# Altium schematic symbol library HW_ADHERENT_NFC_R1_L3.SchLib: 1628 symbols (part 5 of 31)
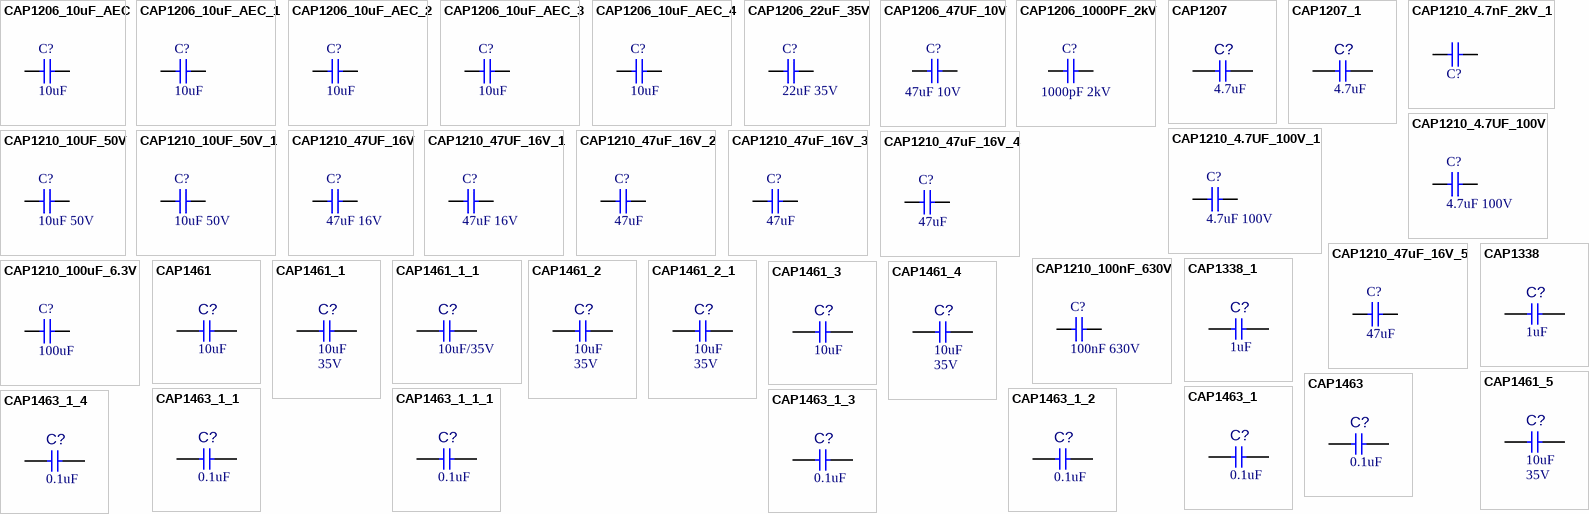
[diagram p54: symbols CAP1206_10uF_AEC to CAP1463_1_4]

## CAP1210_4.7UF_100V
designator C?, comment value 4.7uF 100V  (hidden comment: CAP CER 4.7UF 100V X7S 1210)
4.7 µF ±10% 100V Ceramic Capacitor X7S 1210 (3225 Metric); Manufacturer Part Number: CL32Y475KCIVPNE; Order Code: Digi: 1276-CL32Y475KCIVPNETR-ND; LCSC Manufacturer Part Number: CL32Y475KCIVPNE; LCSC Part Number: C2803397
footprint CAP1210 (CAPACITOR 1210)
pins: 1, 2

## CAP1210_4.7UF_100V_1
designator C?, comment value 4.7uF 100V  (hidden comment: CAP CER 4.7UF 100V X7S 1210)
4.7 µF ±10% 100V Ceramic Capacitor X7S 1210 (3225 Metric); Manufacturer Part Number: CL32Y475KCIVPNE; Order Code: Digi: 1276-CL32Y475KCIVPNETR-ND; LCSC Manufacturer Part Number: CL32Y475KCIVPNE; LCSC Part Number: C2803397
footprint CAP1210 (CAPACITOR 1210)
pins: 1, 2

## CAP1210_10UF_50V
designator C?, comment value 10uF 50V  (hidden comment: CAP CER 10UF 50V X7R 1210)
50V 10uF X7R 1210 Multilayer Ceramic Capacitors MLCC - SMD/SMT ROHS; Manufacturer Part Number: CS3225X7R106K500NRL; Order Code: LCSC: C2918502; LCSC Manufacturer Part Number: CS3225X7R106K500NRL; LCSC Part Number: C2918502
footprint CAP1210 (CAPACITOR 1210)
pins: 1, 2

## CAP1210_10UF_50V_1
designator C?, comment value 10uF 50V  (hidden comment: CAP CER 10UF 50V X7R 1210)
50V 10uF X7R 1210 Multilayer Ceramic Capacitors MLCC - SMD/SMT ROHS; Manufacturer Part Number: CS3225X7R106K500NRL; Order Code: LCSC: C2918502; LCSC Manufacturer Part Number: CS3225X7R106K500NRL; LCSC Part Number: C2918502
footprint CAP1210 (CAPACITOR 1210)
pins: 1, 2

## CAP1210_47UF_16V
designator C?, comment value 47uF 16V  (hidden comment: CAP CER 47UF 16V X5R 1210)
16V 47uF X5R ±10% 1210 Multilayer Ceramic Capacitors MLCC - SMD/SMT ROHS; Manufacturer Part Number: CS3225X5R476K160NRL; Order Code: LCSC: C2918513; LCSC Manufacturer Part Number: CS3225X5R476K160NRL; LCSC Part Number: C2918513
footprint CAP1210 (CAPACITOR 1210)
pins: 1, 2

## CAP1210_47UF_16V_1
designator C?, comment value 47uF 16V  (hidden comment: CAP CER 47UF 16V X5R 1210)
16V 47uF X5R ±10% 1210 Multilayer Ceramic Capacitors MLCC - SMD/SMT ROHS; Manufacturer Part Number: CS3225X5R476K160NRL; Order Code: LCSC: C2918513; LCSC Manufacturer Part Number: CS3225X5R476K160NRL; LCSC Part Number: C2918513
footprint CAP1210 (CAPACITOR 1210)
pins: 1, 2

## CAP1210_47uF_16V_2
designator C?, comment 47uF
CAP CER 47UF 16V X6S 1210; P/N: GRT32EC81C476ME13L; Order Code: DIGI : 490-12495-1-ND; Value: 47uF 16V
footprint CAP1210 (CAPACITOR 1210)
pins: 1, 2

## CAP1210_47uF_16V_3
designator C?, comment 47uF
CAP CER 47UF 16V X6S 1210; P/N: GRT32EC81C476ME13L; Order Code: DIGI : 490-12495-1-ND; Value: 47uF 16V
footprint CAP1210 (CAPACITOR 1210)
pins: 1, 2

## CAP1210_47uF_16V_4
designator C?, comment 47uF
CAP CER 47UF 16V X6S 1210; P/N: GRT32EC81C476ME13L; Order Code: DIGI : 490-12495-1-ND; Value: 47uF 16V
footprint CAP1210 (CAPACITOR 1210)
pins: 1, 2

## CAP1210_47uF_16V_5
designator C?, comment 47uF
CAP CER 47UF 16V X6S 1210; P/N: GRT32EC81C476ME13L; Order Code: DIGI : 490-12495-1-ND; Value: 47uF 16V
footprint CAP1210 (CAPACITOR 1210)
pins: 1, 2

## CAP1210_100nF_630V
designator C?, comment 100nF 630V
0.1 µF ±10% 630V Ceramic Capacitor X7T 1210 (3225 Metric); Manufacturer Part Number: CGA6N3X7R2A225K230AB; Manufacturer: KEMET; Value: 2.2uF 100V
footprint CAP1210
pins: 1, 2

## CAP1210_100uF_6.3V
designator C?, comment 100uF
100 µF ±20% 6.3V Ceramic Capacitor X6S 1210 (3225 Metric); Manufacturer: KEMET; Manufacturer Part Number: GRM32EC80J107ME20L; Value: 100uF 6.3V
footprint CAP1210
pins: 1, 2

## CAP1338
designator C?, comment 1uF
CAP CER 1UF 35V X5R 0402; Manufacturer: Murata Electronics North America; Manufacturer Part Number: GRM155R6YA105KE11D; Value: 1uF; Voltage: 35V; Revision: A; Supplier Part Number: 490-10019-1-ND
footprint 0402_C (MODIFIED BY DN_MH - 16JAN17; CHECKED BY DN_TN - 18JAN17)
pins: 1, 2

## CAP1338_1
designator C?, comment 1uF
CAP CER 1UF 35V X5R 0402; Manufacturer: Murata Electronics North America; Manufacturer Part Number: GRM155R6YA105KE11D; Value: 1uF; Voltage: 35V; Revision: A; Supplier Part Number: 490-10019-1-ND
footprint 0402_C (MODIFIED BY DN_MH - 16JAN17; CHECKED BY DN_TN - 18JAN17)
pins: 1, 2

## CAP1461
designator C?, comment 10uF
CAP CER 10UF 25V X5R 0603; Manufacturer: Murata Electronics North America; Manufacturer Part Number: GRM188R61E106MA73D; Value: 10uF; Voltage: 25V; Revision: 1; Supplier Part Number: 490-7202-1-ND
footprint 0603_C (CHECKED BY DN_TN - 19FEB19)
pins: 1, 2

## CAP1461_1
designator C?, comment Voltage: 35V  (hidden comment: 10uF)
CAP CER 10UF 35V X5R 0603; Manufacturer: Murata Electronics North America; Manufacturer Part Number: GRM188R6YA106MA73D; Value: 10uF; Revision: 1; Supplier Part Number: 490-13248-1-ND
footprint 0603_C (CHECKED BY DN_TN - 19FEB19)
pins: 1, 2

## CAP1461_1_1
designator C?, comment value 10uF/35V  (hidden comment: 10uF)
CAP CER 10UF 35V X5R 0603; Manufacturer: Murata Electronics North America; Manufacturer Part Number: GRM188R6YA106MA73D; Voltage: 35V; Revision: 1; Supplier Part Number: 490-13248-1-ND
footprint 0603_C (CHECKED BY DN_TN - 19FEB19)
pins: 1, 2

## CAP1461_2
designator C?, comment Voltage: 35V  (hidden comment: 10uF)
CAP CER 10UF 35V X5R 0603; Manufacturer: Murata Electronics North America; Manufacturer Part Number: GRM188R6YA106MA73D; Value: 10uF; Revision: 1; Supplier Part Number: 490-13248-1-ND
footprint 0603_C (CHECKED BY DN_TN - 19FEB19)
pins: 1, 2

## CAP1461_2_1
designator C?, comment Voltage: 35V  (hidden comment: 10uF)
CAP CER 10UF 35V X5R 0603; Manufacturer: Murata Electronics North America; Manufacturer Part Number: GRM188R6YA106MA73D; Value: 10uF; Revision: 1; Supplier Part Number: 490-13248-1-ND
footprint 0603_C (CHECKED BY DN_TN - 19FEB19)
pins: 1, 2

## CAP1461_3
designator C?, comment 10uF
CAP CER 10UF 25V X5R 0603; Manufacturer: Murata Electronics North America; Manufacturer Part Number: GRM188R61E106MA73D; Value: 10uF; Voltage: 25V; Revision: 1; Supplier Part Number: 490-7202-1-ND
footprint 0603_C (CHECKED BY DN_TN - 19FEB19)
pins: 1, 2

## CAP1461_4
designator C?, comment Voltage: 35V  (hidden comment: 10uF)
CAP CER 10UF 35V X5R 0603; Manufacturer: Murata Electronics North America; Manufacturer Part Number: GRM188R6YA106MA73D; Value: 10uF; Revision: 1; Supplier Part Number: 490-13248-1-ND
footprint 0603_C (CHECKED BY DN_TN - 19FEB19)
pins: 1, 2

## CAP1461_5
designator C?, comment Voltage: 35V  (hidden comment: 10uF)
CAP CER 10UF 35V X5R 0603; Manufacturer: Murata Electronics North America; Manufacturer Part Number: GRM188R6YA106MA73D; Value: 10uF; Revision: 1; Supplier Part Number: 490-13248-1-ND
footprint 0603_C (CHECKED BY DN_TN - 19FEB19)
pins: 1, 2

## CAP1463
designator C?, comment 0.1uF
CAP CER 0.1UF 50V X7R 0402; Manufacturer: TDK Corporation; Manufacturer Part Number: C1005X7R1H104K050BB; Value: 0.1uF; Voltage: 50V; Revision: 1; Supplier Part Number: 445-5932-1-ND
footprint 0402_C (MODIFIED BY DN_MH - 16JAN17; CHECKED BY DN_TN - 18JAN17)
pins: 1, 2

## CAP1463_1
designator C?, comment 0.1uF
CAP CER 0.1UF 50V X7R 0402; Manufacturer: TDK Corporation; Manufacturer Part Number: C1005X7R1H104K050BB; Value: 0.1uF; Voltage: 50V; Revision: A; Supplier Part Number: 445-5932-1-ND
footprint 0402_C (MODIFIED BY DN_MH - 16JAN17; CHECKED BY DN_TN - 18JAN17)
pins: 1, 2

## CAP1463_1_1
designator C?, comment 0.1uF
CAP CER 0.1UF 50V X7R 0402; Manufacturer: TDK Corporation; Manufacturer Part Number: C1005X7R1H104K050BB; Value: 0.1uF; Voltage: 50V; Revision: A; Supplier Part Number: 445-5932-1-ND
footprint 0402_C (MODIFIED BY DN_MH - 16JAN17; CHECKED BY DN_TN - 18JAN17)
pins: 1, 2

## CAP1463_1_1_1
designator C?, comment 0.1uF
CAP CER 0.1UF 50V X7R 0402; Manufacturer: TDK Corporation; Manufacturer Part Number: C1005X7R1H104K050BB; Value: 0.1uF; Voltage: 50V; Revision: A; Supplier Part Number: 445-5932-1-ND
footprint 0402_C (MODIFIED BY DN_MH - 16JAN17; CHECKED BY DN_TN - 18JAN17)
pins: 1, 2

## CAP1463_1_2
designator C?, comment 0.1uF
CAP CER 0.1UF 50V X7R 0402; Manufacturer: TDK Corporation; Manufacturer Part Number: C1005X7R1H104K050BB; Value: 0.1uF; Voltage: 50V; Revision: A; Supplier Part Number: 445-5932-1-ND
footprint 0402_C (MODIFIED BY DN_MH - 16JAN17; CHECKED BY DN_TN - 18JAN17)
pins: 1, 2

## CAP1463_1_3
designator C?, comment 0.1uF
CAP CER 0.1UF 50V X7R 0402; Manufacturer: TDK Corporation; Manufacturer Part Number: C1005X7R1H104K050BB; Voltage: 50V; Revision: A; Supplier Part Number: 445-5932-1-ND; Value: 0.1uF
footprint 0402_C (MODIFIED BY DN_MH - 16JAN17; CHECKED BY DN_TN - 18JAN17)
pins: 1, 2

## CAP1463_1_4
designator C?, comment 0.1uF
CAP CER 0.1UF 50V X7R 0402; Manufacturer: TDK Corporation; Manufacturer Part Number: C1005X7R1H104K050BB; Value: 0.1uF; Voltage: 50V; Revision: A; Supplier Part Number: 445-5932-1-ND
footprint 0402_C (MODIFIED BY DN_MH - 16JAN17; CHECKED BY DN_TN - 18JAN17)
pins: 1, 2

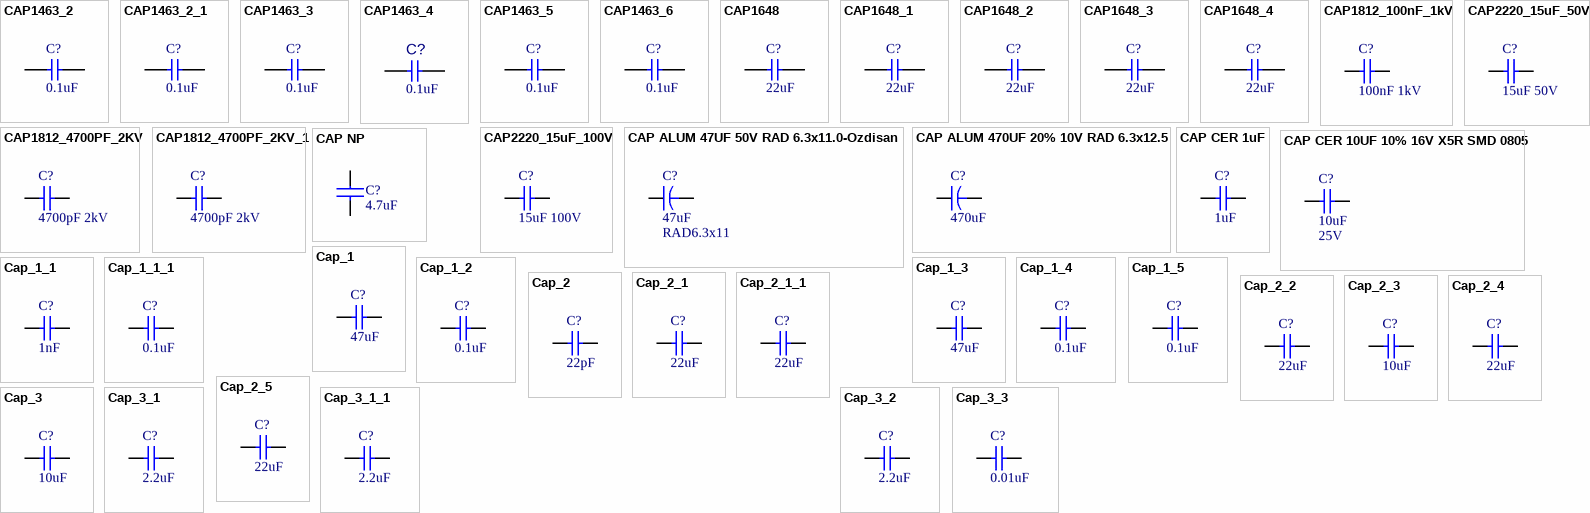
[diagram p10: symbols CAP1463_2 to Cap_3_3]

## CAP1463_2
designator C?, comment 0.1uF
CAPACITOR CERAMIC, 0.1UF, 50V, X7R, 10%, 0603; Manufacturer: Yageo; Manufacturer Part Number: CC0603KRX7R9BB104; Capacitance: 100nF; ComponentLink1URL: https://chn-vm-apps.microchip.com/mchprepo/parts/Datasheets/TDKMLCCCapRange.pdf; ComponentLink1Description: Datasheets; Supplier 1: Digi-Key; Supplier Part Number 1: 311-1344-1-ND; RoHS: Yes; Category: Ceramic Capacitors; Stock 1: 13652525; Pricing 1: 1=0,10000, 10=0,06200, 50=0,03380, 100=0,02760, 500=0,01972, 1000=0,01550 (USD); Mount: Surface Mount; Case/Package: 0603; Number of Pins: 2; Case Code (Metric): 1608; Case Code (Imperial): 0603; Dielectric Material: Ceramic; Min Operating Temperature: -55°C; Max Operating Temperature: 125°C; Package Quantity: 1; Voltage Rating: 50V; Tolerance: 10%; Packaging: Tape and Reel; Dielectric: X7R; Termination: SMD/SMT; Voltage: 50V; Series: CC; Length: 1.6mm; Width: 0.031inch; Height: 0.8mm; Thickness: 0.035inch; Depth: 0.8mm; Radiation Hardening: No; REACH SVHC: No SVHC; Lead Free: Lead Free; Halogen Free: Halogen Free; RoHS Compliant: Yes; ComponentLink2URL: https://datasheet.ciiva.com/11786/0900766b80d84f1d-11786061.pdf?src-supplier=RSComponents; ComponentLink2Description: https://datasheet.ciiva.com/11786/0900766b80d84f1d-11786061.pdf?src-supplier=RSComponents; ComponentLink3URL: https://datasheet.ciiva.com/144/mlccorderingcode-144176.pdf?src-supplier=Digi-Key; ComponentLink3Description: https://datasheet.ciiva.com/144/mlccorderingcode-144176.pdf?src-supplier=Digi-Key; ComponentLink4URL: https://datasheet.ciiva.com/144/mlccorderingcode-144177.pdf?src-supplier=Digi-Key; ComponentLink4Description: https://datasheet.ciiva.com/144/mlccorderingcode-144177.pdf?src-supplier=Digi-Key; ComponentLink5URL: https://datasheet.ciiva.com/144/mlccorderingcode-144178.pdf?src-supplier=Digi-Key; ComponentLink5Description: https://datasheet.ciiva.com/144/mlccorderingcode-144178.pdf?src-supplier=Digi-Key; ComponentLink6URL: https://datasheet.ciiva.com/7978/1489800-7978166.pdf?src-supplier=Element14; ComponentLink6Description: https://datasheet.ciiva.com/7978/1489800-7978166.pdf?src-supplier=Element14; ComponentLink7URL: https://datasheet.ciiva.com/16625/upy-gphc-x7r-6-3v-to-50v-8-16625530.pdf?src-supplier=Avnet+Europe; ComponentLink7Description: https://datasheet.ciiva.com/16625/upy-gphc-x7r-6-3v-to-50v-8-16625530.pdf?src-supplier=Avnet+Europe; ComponentLink8URL: https://datasheet.ciiva.com/8033/70765-8033819.pdf?src-supplier=Element14; ComponentLink8Description: https://datasheet.ciiva.com/8033/70765-8033819.pdf?src-supplier=Element14; ComponentLink9URL: https://datasheet.ciiva.com/8033/70765-8033821.pdf?src-supplier=Element14; ComponentLink9Description: https://datasheet.ciiva.com/8033/70765-8033821.pdf?src-supplier=Element14; ComponentLink10URL: https://datasheet.ciiva.com/22749/1489800-22749214.pdf?src-supplier=Element14; ComponentLink10Description: https://datasheet.ciiva.com/22749/1489800-22749214.pdf?src-supplier=Element14; ComponentLink11URL: https://datasheet.ciiva.com/31394/1489800-31394927.pdf?src-supplier=Farnell; ComponentLink11Description: https://datasheet.ciiva.com/31394/1489800-31394927.pdf?src-supplier=Farnell
footprint C 0603(1608)x0.8_3
pins: 1, 2

## CAP1463_2_1
designator C?, comment 0.1uF
CAPACITOR CERAMIC, 0.1UF, 50V, X7R, 10%, 0603; Manufacturer: Yageo; Manufacturer Part Number: CC0603KRX7R9BB104; Capacitance: 100nF; ComponentLink1URL: https://chn-vm-apps.microchip.com/mchprepo/parts/Datasheets/TDKMLCCCapRange.pdf; ComponentLink1Description: Datasheets; Supplier 1: Digi-Key; Supplier Part Number 1: 311-1344-1-ND; RoHS: Yes; Category: Ceramic Capacitors; Stock 1: 13652525; Pricing 1: 1=0,10000, 10=0,06200, 50=0,03380, 100=0,02760, 500=0,01972, 1000=0,01550 (USD); Mount: Surface Mount; Case/Package: 0603; Number of Pins: 2; Case Code (Metric): 1608; Case Code (Imperial): 0603; Dielectric Material: Ceramic; Min Operating Temperature: -55°C; Max Operating Temperature: 125°C; Package Quantity: 1; Voltage Rating: 50V; Tolerance: 10%; Packaging: Tape and Reel; Dielectric: X7R; Termination: SMD/SMT; Voltage: 50V; Series: CC; Length: 1.6mm; Width: 0.031inch; Height: 0.8mm; Thickness: 0.035inch; Depth: 0.8mm; Radiation Hardening: No; REACH SVHC: No SVHC; Lead Free: Lead Free; Halogen Free: Halogen Free; RoHS Compliant: Yes; ComponentLink2URL: https://datasheet.ciiva.com/11786/0900766b80d84f1d-11786061.pdf?src-supplier=RSComponents; ComponentLink2Description: https://datasheet.ciiva.com/11786/0900766b80d84f1d-11786061.pdf?src-supplier=RSComponents; ComponentLink3URL: https://datasheet.ciiva.com/144/mlccorderingcode-144176.pdf?src-supplier=Digi-Key; ComponentLink3Description: https://datasheet.ciiva.com/144/mlccorderingcode-144176.pdf?src-supplier=Digi-Key; ComponentLink4URL: https://datasheet.ciiva.com/144/mlccorderingcode-144177.pdf?src-supplier=Digi-Key; ComponentLink4Description: https://datasheet.ciiva.com/144/mlccorderingcode-144177.pdf?src-supplier=Digi-Key; ComponentLink5URL: https://datasheet.ciiva.com/144/mlccorderingcode-144178.pdf?src-supplier=Digi-Key; ComponentLink5Description: https://datasheet.ciiva.com/144/mlccorderingcode-144178.pdf?src-supplier=Digi-Key; ComponentLink6URL: https://datasheet.ciiva.com/7978/1489800-7978166.pdf?src-supplier=Element14; ComponentLink6Description: https://datasheet.ciiva.com/7978/1489800-7978166.pdf?src-supplier=Element14; ComponentLink7URL: https://datasheet.ciiva.com/16625/upy-gphc-x7r-6-3v-to-50v-8-16625530.pdf?src-supplier=Avnet+Europe; ComponentLink7Description: https://datasheet.ciiva.com/16625/upy-gphc-x7r-6-3v-to-50v-8-16625530.pdf?src-supplier=Avnet+Europe; ComponentLink8URL: https://datasheet.ciiva.com/8033/70765-8033819.pdf?src-supplier=Element14; ComponentLink8Description: https://datasheet.ciiva.com/8033/70765-8033819.pdf?src-supplier=Element14; ComponentLink9URL: https://datasheet.ciiva.com/8033/70765-8033821.pdf?src-supplier=Element14; ComponentLink9Description: https://datasheet.ciiva.com/8033/70765-8033821.pdf?src-supplier=Element14; ComponentLink10URL: https://datasheet.ciiva.com/22749/1489800-22749214.pdf?src-supplier=Element14; ComponentLink10Description: https://datasheet.ciiva.com/22749/1489800-22749214.pdf?src-supplier=Element14; ComponentLink11URL: https://datasheet.ciiva.com/31394/1489800-31394927.pdf?src-supplier=Farnell; ComponentLink11Description: https://datasheet.ciiva.com/31394/1489800-31394927.pdf?src-supplier=Farnell
footprint C 0603(1608)x0.8_3
pins: 1, 2

## CAP1463_3
designator C?, comment 0.1uF
CAPACITOR CERAMIC, 0.1UF, 50V, X7R, 10%, 0603; Manufacturer: Yageo; Manufacturer Part Number: CC0603KRX7R9BB104; Capacitance: 100nF; ComponentLink1URL: https://chn-vm-apps.microchip.com/mchprepo/parts/Datasheets/TDKMLCCCapRange.pdf; ComponentLink1Description: Datasheets; Supplier 1: Digi-Key; Supplier Part Number 1: 311-1344-1-ND; RoHS: Yes; Category: Ceramic Capacitors; Stock 1: 13652525; Pricing 1: 1=0,10000, 10=0,06200, 50=0,03380, 100=0,02760, 500=0,01972, 1000=0,01550 (USD); Mount: Surface Mount; Case/Package: 0603; Number of Pins: 2; Case Code (Metric): 1608; Case Code (Imperial): 0603; Dielectric Material: Ceramic; Min Operating Temperature: -55°C; Max Operating Temperature: 125°C; Package Quantity: 1; Voltage Rating: 50V; Tolerance: 10%; Packaging: Tape and Reel; Dielectric: X7R; Termination: SMD/SMT; Voltage: 50V; Series: CC; Length: 1.6mm; Width: 0.031inch; Height: 0.8mm; Thickness: 0.035inch; Depth: 0.8mm; Radiation Hardening: No; REACH SVHC: No SVHC; Lead Free: Lead Free; Halogen Free: Halogen Free; RoHS Compliant: Yes; ComponentLink2URL: https://datasheet.ciiva.com/11786/0900766b80d84f1d-11786061.pdf?src-supplier=RSComponents; ComponentLink2Description: https://datasheet.ciiva.com/11786/0900766b80d84f1d-11786061.pdf?src-supplier=RSComponents; ComponentLink3URL: https://datasheet.ciiva.com/144/mlccorderingcode-144176.pdf?src-supplier=Digi-Key; ComponentLink3Description: https://datasheet.ciiva.com/144/mlccorderingcode-144176.pdf?src-supplier=Digi-Key; ComponentLink4URL: https://datasheet.ciiva.com/144/mlccorderingcode-144177.pdf?src-supplier=Digi-Key; ComponentLink4Description: https://datasheet.ciiva.com/144/mlccorderingcode-144177.pdf?src-supplier=Digi-Key; ComponentLink5URL: https://datasheet.ciiva.com/144/mlccorderingcode-144178.pdf?src-supplier=Digi-Key; ComponentLink5Description: https://datasheet.ciiva.com/144/mlccorderingcode-144178.pdf?src-supplier=Digi-Key; ComponentLink6URL: https://datasheet.ciiva.com/7978/1489800-7978166.pdf?src-supplier=Element14; ComponentLink6Description: https://datasheet.ciiva.com/7978/1489800-7978166.pdf?src-supplier=Element14; ComponentLink7URL: https://datasheet.ciiva.com/16625/upy-gphc-x7r-6-3v-to-50v-8-16625530.pdf?src-supplier=Avnet+Europe; ComponentLink7Description: https://datasheet.ciiva.com/16625/upy-gphc-x7r-6-3v-to-50v-8-16625530.pdf?src-supplier=Avnet+Europe; ComponentLink8URL: https://datasheet.ciiva.com/8033/70765-8033819.pdf?src-supplier=Element14; ComponentLink8Description: https://datasheet.ciiva.com/8033/70765-8033819.pdf?src-supplier=Element14; ComponentLink9URL: https://datasheet.ciiva.com/8033/70765-8033821.pdf?src-supplier=Element14; ComponentLink9Description: https://datasheet.ciiva.com/8033/70765-8033821.pdf?src-supplier=Element14; ComponentLink10URL: https://datasheet.ciiva.com/22749/1489800-22749214.pdf?src-supplier=Element14; ComponentLink10Description: https://datasheet.ciiva.com/22749/1489800-22749214.pdf?src-supplier=Element14; ComponentLink11URL: https://datasheet.ciiva.com/31394/1489800-31394927.pdf?src-supplier=Farnell; ComponentLink11Description: https://datasheet.ciiva.com/31394/1489800-31394927.pdf?src-supplier=Farnell
footprint C 0603(1608)x0.8_3
pins: 1, 2

## CAP1463_4
designator C?, comment 0.1uF
CAP CER 0.1UF 50V X7R 0402; Manufacturer: TDK Corporation; Manufacturer Part Number: C1005X7R1H104K050BB; Value: 0.1uF; Voltage: 50V; Revision: 1; Supplier Part Number: 445-5932-1-ND
footprint 0402_C (MODIFIED BY DN_MH - 16JAN17; CHECKED BY DN_TN - 18JAN17)
pins: 1, 2

## CAP1463_5
designator C?, comment 0.1uF
CAPACITOR CERAMIC, 0.1UF, 50V, X7R, 10%, 0603; Manufacturer: Yageo; Manufacturer Part Number: CC0603KRX7R9BB104; Capacitance: 100nF; ComponentLink1URL: https://chn-vm-apps.microchip.com/mchprepo/parts/Datasheets/TDKMLCCCapRange.pdf; ComponentLink1Description: Datasheets; Supplier 1: Digi-Key; Supplier Part Number 1: 311-1344-1-ND; RoHS: Yes; Category: Ceramic Capacitors; Stock 1: 13652525; Pricing 1: 1=0,10000, 10=0,06200, 50=0,03380, 100=0,02760, 500=0,01972, 1000=0,01550 (USD); Mount: Surface Mount; Case/Package: 0603; Number of Pins: 2; Case Code (Metric): 1608; Case Code (Imperial): 0603; Dielectric Material: Ceramic; Min Operating Temperature: -55°C; Max Operating Temperature: 125°C; Package Quantity: 1; Voltage Rating: 50V; Tolerance: 10%; Packaging: Tape and Reel; Dielectric: X7R; Termination: SMD/SMT; Voltage: 50V; Series: CC; Length: 1.6mm; Width: 0.031inch; Height: 0.8mm; Thickness: 0.035inch; Depth: 0.8mm; Radiation Hardening: No; REACH SVHC: No SVHC; Lead Free: Lead Free; Halogen Free: Halogen Free; RoHS Compliant: Yes; ComponentLink2URL: https://datasheet.ciiva.com/11786/0900766b80d84f1d-11786061.pdf?src-supplier=RSComponents; ComponentLink2Description: https://datasheet.ciiva.com/11786/0900766b80d84f1d-11786061.pdf?src-supplier=RSComponents; ComponentLink3URL: https://datasheet.ciiva.com/144/mlccorderingcode-144176.pdf?src-supplier=Digi-Key; ComponentLink3Description: https://datasheet.ciiva.com/144/mlccorderingcode-144176.pdf?src-supplier=Digi-Key; ComponentLink4URL: https://datasheet.ciiva.com/144/mlccorderingcode-144177.pdf?src-supplier=Digi-Key; ComponentLink4Description: https://datasheet.ciiva.com/144/mlccorderingcode-144177.pdf?src-supplier=Digi-Key; ComponentLink5URL: https://datasheet.ciiva.com/144/mlccorderingcode-144178.pdf?src-supplier=Digi-Key; ComponentLink5Description: https://datasheet.ciiva.com/144/mlccorderingcode-144178.pdf?src-supplier=Digi-Key; ComponentLink6URL: https://datasheet.ciiva.com/7978/1489800-7978166.pdf?src-supplier=Element14; ComponentLink6Description: https://datasheet.ciiva.com/7978/1489800-7978166.pdf?src-supplier=Element14; ComponentLink7URL: https://datasheet.ciiva.com/16625/upy-gphc-x7r-6-3v-to-50v-8-16625530.pdf?src-supplier=Avnet+Europe; ComponentLink7Description: https://datasheet.ciiva.com/16625/upy-gphc-x7r-6-3v-to-50v-8-16625530.pdf?src-supplier=Avnet+Europe; ComponentLink8URL: https://datasheet.ciiva.com/8033/70765-8033819.pdf?src-supplier=Element14; ComponentLink8Description: https://datasheet.ciiva.com/8033/70765-8033819.pdf?src-supplier=Element14; ComponentLink9URL: https://datasheet.ciiva.com/8033/70765-8033821.pdf?src-supplier=Element14; ComponentLink9Description: https://datasheet.ciiva.com/8033/70765-8033821.pdf?src-supplier=Element14; ComponentLink10URL: https://datasheet.ciiva.com/22749/1489800-22749214.pdf?src-supplier=Element14; ComponentLink10Description: https://datasheet.ciiva.com/22749/1489800-22749214.pdf?src-supplier=Element14; ComponentLink11URL: https://datasheet.ciiva.com/31394/1489800-31394927.pdf?src-supplier=Farnell; ComponentLink11Description: https://datasheet.ciiva.com/31394/1489800-31394927.pdf?src-supplier=Farnell
footprint C 0603(1608)x0.8_3
pins: 1, 2

## CAP1463_6
designator C?, comment 0.1uF
CAPACITOR CERAMIC, 0.1UF, 50V, X7R, 10%, 0603; Manufacturer: Yageo; Manufacturer Part Number: CC0603KRX7R9BB104; Capacitance: 100nF; ComponentLink1URL: https://chn-vm-apps.microchip.com/mchprepo/parts/Datasheets/TDKMLCCCapRange.pdf; ComponentLink1Description: Datasheets; Supplier 1: Digi-Key; Supplier Part Number 1: 311-1344-1-ND; RoHS: Yes; Category: Ceramic Capacitors; Stock 1: 13652525; Pricing 1: 1=0,10000, 10=0,06200, 50=0,03380, 100=0,02760, 500=0,01972, 1000=0,01550 (USD); Mount: Surface Mount; Case/Package: 0603; Number of Pins: 2; Case Code (Metric): 1608; Case Code (Imperial): 0603; Dielectric Material: Ceramic; Min Operating Temperature: -55°C; Max Operating Temperature: 125°C; Package Quantity: 1; Voltage Rating: 50V; Tolerance: 10%; Packaging: Tape and Reel; Dielectric: X7R; Termination: SMD/SMT; Voltage: 50V; Series: CC; Length: 1.6mm; Width: 0.031inch; Height: 0.8mm; Thickness: 0.035inch; Depth: 0.8mm; Radiation Hardening: No; REACH SVHC: No SVHC; Lead Free: Lead Free; Halogen Free: Halogen Free; RoHS Compliant: Yes; ComponentLink2URL: https://datasheet.ciiva.com/11786/0900766b80d84f1d-11786061.pdf?src-supplier=RSComponents; ComponentLink2Description: https://datasheet.ciiva.com/11786/0900766b80d84f1d-11786061.pdf?src-supplier=RSComponents; ComponentLink3URL: https://datasheet.ciiva.com/144/mlccorderingcode-144176.pdf?src-supplier=Digi-Key; ComponentLink3Description: https://datasheet.ciiva.com/144/mlccorderingcode-144176.pdf?src-supplier=Digi-Key; ComponentLink4URL: https://datasheet.ciiva.com/144/mlccorderingcode-144177.pdf?src-supplier=Digi-Key; ComponentLink4Description: https://datasheet.ciiva.com/144/mlccorderingcode-144177.pdf?src-supplier=Digi-Key; ComponentLink5URL: https://datasheet.ciiva.com/144/mlccorderingcode-144178.pdf?src-supplier=Digi-Key; ComponentLink5Description: https://datasheet.ciiva.com/144/mlccorderingcode-144178.pdf?src-supplier=Digi-Key; ComponentLink6URL: https://datasheet.ciiva.com/7978/1489800-7978166.pdf?src-supplier=Element14; ComponentLink6Description: https://datasheet.ciiva.com/7978/1489800-7978166.pdf?src-supplier=Element14; ComponentLink7URL: https://datasheet.ciiva.com/16625/upy-gphc-x7r-6-3v-to-50v-8-16625530.pdf?src-supplier=Avnet+Europe; ComponentLink7Description: https://datasheet.ciiva.com/16625/upy-gphc-x7r-6-3v-to-50v-8-16625530.pdf?src-supplier=Avnet+Europe; ComponentLink8URL: https://datasheet.ciiva.com/8033/70765-8033819.pdf?src-supplier=Element14; ComponentLink8Description: https://datasheet.ciiva.com/8033/70765-8033819.pdf?src-supplier=Element14; ComponentLink9URL: https://datasheet.ciiva.com/8033/70765-8033821.pdf?src-supplier=Element14; ComponentLink9Description: https://datasheet.ciiva.com/8033/70765-8033821.pdf?src-supplier=Element14; ComponentLink10URL: https://datasheet.ciiva.com/22749/1489800-22749214.pdf?src-supplier=Element14; ComponentLink10Description: https://datasheet.ciiva.com/22749/1489800-22749214.pdf?src-supplier=Element14; ComponentLink11URL: https://datasheet.ciiva.com/31394/1489800-31394927.pdf?src-supplier=Farnell; ComponentLink11Description: https://datasheet.ciiva.com/31394/1489800-31394927.pdf?src-supplier=Farnell
footprint C 0603(1608)x0.8_3
pins: 1, 2

## CAP1648
designator C?, comment 22uF
Cap Ceramic 22uF 6.3V X5R 20% SMD 0603 85C Cardboard T/R; Manufacturer: Samsung; Manufacturer Part Number: CL10A226MQ8NRNC; ComponentLink1URL: https://chn-vm-apps.microchip.com/mchprepo/parts/Datasheets/1913358.pdf; ComponentLink1Description: SVN Datasheet; ComponentLink2URL: C:\ALTIUM_WORK\00001_MCHP-CDB\Datasheets\1913358.pdf; ComponentLink2Description: Local Datasheet; ComponentLink3URL: C:\ALTIUM_WORK\00001_MCHP-CDB\Library\LibraryRefs\Capacitor NP.SchLib; ComponentLink3Description: Open Symbol; ComponentLink4URL: C:\ALTIUM_WORK\00001_MCHP-CDB\Library\Footprints\CAP_C_0603.PcbLib; ComponentLink4Description: Open Footprint; ComponentLink5Description: https://datasheet.ciiva.com/26838/getdatasheetpartid-353311-26838372.pdf?src-supplier=Verical; ComponentLink6Description: https://datasheet.ciiva.com/25790/cl10a226mq8nrnc-25790695.pdf?src-supplier=Digi-Key; ComponentLink7Description: https://datasheet.ciiva.com/29198/457121-da-01-en-vs-kondensator-0603-29198747.pdf?src-supplier=Conrad; Supplier 1: Digi-Key; Supplier Part Number 1: 1276-1193-1-ND; RoHS: Yes; Category: Ceramic Capacitors; Stock 1: 1955910; Pricing 1: 1=0,31000, 10=0,21000, 50=0,12600, 100=0,10640, 500=0,07280, 1000=0,06441 (USD); Mount: Surface Mount; Case/Package: 0603; Case Code (Metric): 1608; Case Code (Imperial): 0603; Material: Ceramic; Contact Plating: Tin; Min Operating Temperature: -55°C; Max Operating Temperature: 85°C; Capacitance: 22uF; Tolerance: 20%; Packaging: Tape and Reel; Voltage Rating: 6.3V; Package Quantity: 1; Dielectric: X5R; Voltage: 6.3V; Series: CL; Construction: Flat; Length: 1.6mm; Width: 0.031inch; Height: 0.8mm; Thickness: 0.039inch; Depth: 0.8mm; Radiation Hardening: No; RoHS Compliant: Yes; ComponentLink5URL: https://datasheet.ciiva.com/26838/getdatasheetpartid-353311-26838372.pdf?src-supplier=Verical; ComponentLink6URL: https://datasheet.ciiva.com/25790/cl10a226mq8nrnc-25790695.pdf?src-supplier=Digi-Key; ComponentLink7URL: https://datasheet.ciiva.com/29198/457121-da-01-en-vs-kondensator-0603-29198747.pdf?src-supplier=Conrad; ComponentLink8URL: https://datasheet.ciiva.com/16437/cl05b104kq5nnnc-16437317.pdf?src-supplier=Future+Electronics; ComponentLink8Description: https://datasheet.ciiva.com/16437/cl05b104kq5nnnc-16437317.pdf?src-supplier=Future+Electronics
footprint C 0603(1608)x0.8_3
pins: 1, 2

## CAP1648_1
designator C?, comment 22uF
Cap Ceramic 22uF 6.3V X5R 20% SMD 0603 85C Cardboard T/R; Manufacturer: Samsung; Manufacturer Part Number: CL10A226MQ8NRNC; ComponentLink1URL: https://chn-vm-apps.microchip.com/mchprepo/parts/Datasheets/1913358.pdf; ComponentLink1Description: SVN Datasheet; ComponentLink2URL: C:\ALTIUM_WORK\00001_MCHP-CDB\Datasheets\1913358.pdf; ComponentLink2Description: Local Datasheet; ComponentLink3URL: C:\ALTIUM_WORK\00001_MCHP-CDB\Library\LibraryRefs\Capacitor NP.SchLib; ComponentLink3Description: Open Symbol; ComponentLink4URL: C:\ALTIUM_WORK\00001_MCHP-CDB\Library\Footprints\CAP_C_0603.PcbLib; ComponentLink4Description: Open Footprint; ComponentLink5Description: https://datasheet.ciiva.com/26838/getdatasheetpartid-353311-26838372.pdf?src-supplier=Verical; ComponentLink6Description: https://datasheet.ciiva.com/25790/cl10a226mq8nrnc-25790695.pdf?src-supplier=Digi-Key; ComponentLink7Description: https://datasheet.ciiva.com/29198/457121-da-01-en-vs-kondensator-0603-29198747.pdf?src-supplier=Conrad; Supplier 1: Digi-Key; Supplier Part Number 1: 1276-1193-1-ND; RoHS: Yes; Category: Ceramic Capacitors; Stock 1: 1955910; Pricing 1: 1=0,31000, 10=0,21000, 50=0,12600, 100=0,10640, 500=0,07280, 1000=0,06441 (USD); Mount: Surface Mount; Case/Package: 0603; Case Code (Metric): 1608; Case Code (Imperial): 0603; Material: Ceramic; Contact Plating: Tin; Min Operating Temperature: -55°C; Max Operating Temperature: 85°C; Capacitance: 22uF; Tolerance: 20%; Packaging: Tape and Reel; Voltage Rating: 6.3V; Package Quantity: 1; Dielectric: X5R; Voltage: 6.3V; Series: CL; Construction: Flat; Length: 1.6mm; Width: 0.031inch; Height: 0.8mm; Thickness: 0.039inch; Depth: 0.8mm; Radiation Hardening: No; RoHS Compliant: Yes; ComponentLink5URL: https://datasheet.ciiva.com/26838/getdatasheetpartid-353311-26838372.pdf?src-supplier=Verical; ComponentLink6URL: https://datasheet.ciiva.com/25790/cl10a226mq8nrnc-25790695.pdf?src-supplier=Digi-Key; ComponentLink7URL: https://datasheet.ciiva.com/29198/457121-da-01-en-vs-kondensator-0603-29198747.pdf?src-supplier=Conrad; ComponentLink8URL: https://datasheet.ciiva.com/16437/cl05b104kq5nnnc-16437317.pdf?src-supplier=Future+Electronics; ComponentLink8Description: https://datasheet.ciiva.com/16437/cl05b104kq5nnnc-16437317.pdf?src-supplier=Future+Electronics
footprint C 0603(1608)x0.8_3
pins: 1, 2

## CAP1648_2
designator C?, comment 22uF
Cap Ceramic 22uF 6.3V X5R 20% SMD 0603 85C Cardboard T/R; Manufacturer: Samsung; Manufacturer Part Number: CL10A226MQ8NRNC; ComponentLink1URL: https://chn-vm-apps.microchip.com/mchprepo/parts/Datasheets/1913358.pdf; ComponentLink1Description: SVN Datasheet; ComponentLink2URL: C:\ALTIUM_WORK\00001_MCHP-CDB\Datasheets\1913358.pdf; ComponentLink2Description: Local Datasheet; ComponentLink3URL: C:\ALTIUM_WORK\00001_MCHP-CDB\Library\LibraryRefs\Capacitor NP.SchLib; ComponentLink3Description: Open Symbol; ComponentLink4URL: C:\ALTIUM_WORK\00001_MCHP-CDB\Library\Footprints\CAP_C_0603.PcbLib; ComponentLink4Description: Open Footprint; ComponentLink5Description: https://datasheet.ciiva.com/26838/getdatasheetpartid-353311-26838372.pdf?src-supplier=Verical; ComponentLink6Description: https://datasheet.ciiva.com/25790/cl10a226mq8nrnc-25790695.pdf?src-supplier=Digi-Key; ComponentLink7Description: https://datasheet.ciiva.com/29198/457121-da-01-en-vs-kondensator-0603-29198747.pdf?src-supplier=Conrad; Supplier 1: Digi-Key; Supplier Part Number 1: 1276-1193-1-ND; RoHS: Yes; Category: Ceramic Capacitors; Stock 1: 1955910; Pricing 1: 1=0,31000, 10=0,21000, 50=0,12600, 100=0,10640, 500=0,07280, 1000=0,06441 (USD); Mount: Surface Mount; Case/Package: 0603; Case Code (Metric): 1608; Case Code (Imperial): 0603; Material: Ceramic; Contact Plating: Tin; Min Operating Temperature: -55°C; Max Operating Temperature: 85°C; Capacitance: 22uF; Tolerance: 20%; Packaging: Tape and Reel; Voltage Rating: 6.3V; Package Quantity: 1; Dielectric: X5R; Voltage: 6.3V; Series: CL; Construction: Flat; Length: 1.6mm; Width: 0.031inch; Height: 0.8mm; Thickness: 0.039inch; Depth: 0.8mm; Radiation Hardening: No; RoHS Compliant: Yes; ComponentLink5URL: https://datasheet.ciiva.com/26838/getdatasheetpartid-353311-26838372.pdf?src-supplier=Verical; ComponentLink6URL: https://datasheet.ciiva.com/25790/cl10a226mq8nrnc-25790695.pdf?src-supplier=Digi-Key; ComponentLink7URL: https://datasheet.ciiva.com/29198/457121-da-01-en-vs-kondensator-0603-29198747.pdf?src-supplier=Conrad; ComponentLink8URL: https://datasheet.ciiva.com/16437/cl05b104kq5nnnc-16437317.pdf?src-supplier=Future+Electronics; ComponentLink8Description: https://datasheet.ciiva.com/16437/cl05b104kq5nnnc-16437317.pdf?src-supplier=Future+Electronics
footprint C 0603(1608)x0.8_3
pins: 1, 2

## CAP1648_3
designator C?, comment 22uF
Cap Ceramic 22uF 6.3V X5R 20% SMD 0603 85C Cardboard T/R; Manufacturer: Samsung; Manufacturer Part Number: CL10A226MQ8NRNC; ComponentLink1URL: https://chn-vm-apps.microchip.com/mchprepo/parts/Datasheets/1913358.pdf; ComponentLink1Description: SVN Datasheet; ComponentLink2URL: C:\ALTIUM_WORK\00001_MCHP-CDB\Datasheets\1913358.pdf; ComponentLink2Description: Local Datasheet; ComponentLink3URL: C:\ALTIUM_WORK\00001_MCHP-CDB\Library\LibraryRefs\Capacitor NP.SchLib; ComponentLink3Description: Open Symbol; ComponentLink4URL: C:\ALTIUM_WORK\00001_MCHP-CDB\Library\Footprints\CAP_C_0603.PcbLib; ComponentLink4Description: Open Footprint; ComponentLink5Description: https://datasheet.ciiva.com/26838/getdatasheetpartid-353311-26838372.pdf?src-supplier=Verical; ComponentLink6Description: https://datasheet.ciiva.com/25790/cl10a226mq8nrnc-25790695.pdf?src-supplier=Digi-Key; ComponentLink7Description: https://datasheet.ciiva.com/29198/457121-da-01-en-vs-kondensator-0603-29198747.pdf?src-supplier=Conrad; Supplier 1: Digi-Key; Supplier Part Number 1: 1276-1193-1-ND; RoHS: Yes; Category: Ceramic Capacitors; Stock 1: 1955910; Pricing 1: 1=0,31000, 10=0,21000, 50=0,12600, 100=0,10640, 500=0,07280, 1000=0,06441 (USD); Mount: Surface Mount; Case/Package: 0603; Case Code (Metric): 1608; Case Code (Imperial): 0603; Material: Ceramic; Contact Plating: Tin; Min Operating Temperature: -55°C; Max Operating Temperature: 85°C; Capacitance: 22uF; Tolerance: 20%; Packaging: Tape and Reel; Voltage Rating: 6.3V; Package Quantity: 1; Dielectric: X5R; Voltage: 6.3V; Series: CL; Construction: Flat; Length: 1.6mm; Width: 0.031inch; Height: 0.8mm; Thickness: 0.039inch; Depth: 0.8mm; Radiation Hardening: No; RoHS Compliant: Yes; ComponentLink5URL: https://datasheet.ciiva.com/26838/getdatasheetpartid-353311-26838372.pdf?src-supplier=Verical; ComponentLink6URL: https://datasheet.ciiva.com/25790/cl10a226mq8nrnc-25790695.pdf?src-supplier=Digi-Key; ComponentLink7URL: https://datasheet.ciiva.com/29198/457121-da-01-en-vs-kondensator-0603-29198747.pdf?src-supplier=Conrad; ComponentLink8URL: https://datasheet.ciiva.com/16437/cl05b104kq5nnnc-16437317.pdf?src-supplier=Future+Electronics; ComponentLink8Description: https://datasheet.ciiva.com/16437/cl05b104kq5nnnc-16437317.pdf?src-supplier=Future+Electronics
footprint C 0603(1608)x0.8_3
pins: 1, 2

## CAP1648_4
designator C?, comment 22uF
Cap Ceramic 22uF 6.3V X5R 20% SMD 0603 85C Cardboard T/R; Manufacturer: Samsung; Manufacturer Part Number: CL10A226MQ8NRNC; ComponentLink1URL: https://chn-vm-apps.microchip.com/mchprepo/parts/Datasheets/1913358.pdf; ComponentLink1Description: SVN Datasheet; ComponentLink2URL: C:\ALTIUM_WORK\00001_MCHP-CDB\Datasheets\1913358.pdf; ComponentLink2Description: Local Datasheet; ComponentLink3URL: C:\ALTIUM_WORK\00001_MCHP-CDB\Library\LibraryRefs\Capacitor NP.SchLib; ComponentLink3Description: Open Symbol; ComponentLink4URL: C:\ALTIUM_WORK\00001_MCHP-CDB\Library\Footprints\CAP_C_0603.PcbLib; ComponentLink4Description: Open Footprint; ComponentLink5Description: https://datasheet.ciiva.com/26838/getdatasheetpartid-353311-26838372.pdf?src-supplier=Verical; ComponentLink6Description: https://datasheet.ciiva.com/25790/cl10a226mq8nrnc-25790695.pdf?src-supplier=Digi-Key; ComponentLink7Description: https://datasheet.ciiva.com/29198/457121-da-01-en-vs-kondensator-0603-29198747.pdf?src-supplier=Conrad; Supplier 1: Digi-Key; Supplier Part Number 1: 1276-1193-1-ND; RoHS: Yes; Category: Ceramic Capacitors; Stock 1: 1955910; Pricing 1: 1=0,31000, 10=0,21000, 50=0,12600, 100=0,10640, 500=0,07280, 1000=0,06441 (USD); Mount: Surface Mount; Case/Package: 0603; Case Code (Metric): 1608; Case Code (Imperial): 0603; Material: Ceramic; Contact Plating: Tin; Min Operating Temperature: -55°C; Max Operating Temperature: 85°C; Capacitance: 22uF; Tolerance: 20%; Packaging: Tape and Reel; Voltage Rating: 6.3V; Package Quantity: 1; Dielectric: X5R; Voltage: 6.3V; Series: CL; Construction: Flat; Length: 1.6mm; Width: 0.031inch; Height: 0.8mm; Thickness: 0.039inch; Depth: 0.8mm; Radiation Hardening: No; RoHS Compliant: Yes; ComponentLink5URL: https://datasheet.ciiva.com/26838/getdatasheetpartid-353311-26838372.pdf?src-supplier=Verical; ComponentLink6URL: https://datasheet.ciiva.com/25790/cl10a226mq8nrnc-25790695.pdf?src-supplier=Digi-Key; ComponentLink7URL: https://datasheet.ciiva.com/29198/457121-da-01-en-vs-kondensator-0603-29198747.pdf?src-supplier=Conrad; ComponentLink8URL: https://datasheet.ciiva.com/16437/cl05b104kq5nnnc-16437317.pdf?src-supplier=Future+Electronics; ComponentLink8Description: https://datasheet.ciiva.com/16437/cl05b104kq5nnnc-16437317.pdf?src-supplier=Future+Electronics
footprint C 0603(1608)x0.8_3
pins: 1, 2

## CAP1812_100nF_1kV
designator C?, comment 100nF 1kV
0.1 µF ±10% 1000V (1kV) Ceramic Capacitor X7R 1812 (4532 Metric); Manufacturer Part Number: C1812C104KDRACAUTO; Order Code: DIGI : 399-1061-1-ND; Value: 100nF 1kV
footprint CAP0805
pins: 1, 2

## CAP1812_4700PF_2KV
designator C?, comment value 4700pF 2kV  (hidden comment: CAP CER 4700PF 2KV X7R 1812)
2kV 4.7nF X7R ±10% 1812 Multilayer Ceramic Capacitors MLCC - SMD/SMT ROHS; Manufacturer Part Number: 202S43W472KV4E; Order Code: *; Sirius Stock Code: *; LCSC Part Number: C167436; LCSC Manufacturer Part Number: 202S43W472KV4E
footprint CAP1812
pins: 1, 2

## CAP1812_4700PF_2KV_1
designator C?, comment value 4700pF 2kV  (hidden comment: CAP CER 4700PF 2KV X7R 1812)
2kV 4.7nF X7R ±10% 1812 Multilayer Ceramic Capacitors MLCC - SMD/SMT ROHS; Manufacturer Part Number: 202S43W472KV4E; Order Code: *; Sirius Stock Code: *; LCSC Part Number: C167436; LCSC Manufacturer Part Number: 202S43W472KV4E
footprint CAP1812
pins: 1, 2

## CAP2220_15uF_50V
designator C?, comment 15uF 50V
15 µF ±20% 50V Ceramic Capacitor X7R 2220 (5750 Metric); Manufacturer Part Number: KTS500B156M55N0T00; Manufacturer_Name: United Chemi-Con; Datasheet Link: https://datasheet.datasheetarchive.com/originals/distributors/Datasheets_SAMA/4dde93649cc607ddd6bfb541015cc4fa.pdf; Height: 2.8mm; Mouser Part Number: 661-KTS500B156M55N0T; Mouser Price/Stock: https://www.mouser.co.uk/ProductDetail/United-Chemi-Con/KTS500B156M55N0T00?qs=JdmRl75CwTr2quLDQvdd6Q%3D%3D
footprint CAP2220
pins: 1, 2

## CAP2220_15uF_100V
designator C?, comment 15uF 100V
15 µF ±20% 100V Ceramic Capacitor X7S 2220 (5750 Metric); Manufacturer Part Number: CGA9P3X7S2A156M250KB; Manufacturer_Name: United Chemi-Con; Datasheet Link: https://datasheet.datasheetarchive.com/originals/distributors/Datasheets_SAMA/4dde93649cc607ddd6bfb541015cc4fa.pdf; Height: 2.8mm; Mouser Part Number: 661-KTS500B156M55N0T; Mouser Price/Stock: https://www.mouser.co.uk/ProductDetail/United-Chemi-Con/KTS500B156M55N0T00?qs=JdmRl75CwTr2quLDQvdd6Q%3D%3D
footprint CAP2220
pins: 1, 2

## CAP ALUM 47UF 50V RAD 6.3x11.0-Ozdisan
designator C?  value 47uF  Package Reference: RAD6.3x11  (hidden comment: CAP ALUM 47UF 50V RAD 6.3x11.0-Ozdisan)
Manufacturer: KOSHIN; Manufacturer Part Name: KR1-050V470ME110-T/A5.0; Code: 3020033; Family: CAP; Supplier: Ozdisan; Supplier No: KR1-050V470ME110-T/A5.0
footprint RAD6.3X11X2.5E (Capacitor, Electrolytic, Radial; Body 6.3 x 11 mm (Dia.xH typ); Pin Spacing 2.5 mm (typ))
pins: 1, 2

## CAP ALUM 470UF 20% 10V RAD 6.3x12.5
designator C?  value 470uF  (hidden comment: CAP ALUM 470UF 20% 10V RAD 6.3x12.5)
Manufacturer: SAMSUNG; Manufacturer Part Name: CESSL1A471M0812AD; Code: 3020001; Family: CAP; Supplier: OZDISAN; Supplier No: CESSL1A471M0812AD; Package Reference: RAD6.3x12.5
footprint RAD6.3X12.5X2.5E (Capacitor, Electrolytic, Radial; Body 6.3 x 12.5 mm (Dia.xH typ); Pin Spacing 2.5 mm (typ))
pins: 1, 2

## CAP CER 1uF
designator C?  value 1uF  (hidden comment: CAP CER 1uF)
Manufacturer: TDK Corporation; ManufacturerPartNumber: CAP CER 1UF 16V X7R 0603; DetailedDesctiprition: 1µF ±10% 16V Ceramic Capacitor X7R 0603 (1608 Metric); DigikeyPartNumber: 445-12539-1-ND
footprint CAP_CER_1608_0603
footprint CAP0603 (CAPACITOR 0603)
pins: 1, 2

## CAP CER 10UF 10% 16V X5R SMD 0805
designator C?, comment 10uF  Voltage Rating: 25V
CAP CER 10UF 25V X5R 0805; Manufacturer: Murata; Manufacturer Part Number: GRM21BR61E106KA73L; Material: Ceramic; Tolerance: 10%; Supplier 1: Digi-Key; Supplier Part Number 1: 490-5523-1-ND; RoHS: Yes; Category: Ceramic Capacitors; Stock 1: 5932171; Pricing 1: 1=0,42000, 10=0,29200, 50=0,20480, 100=0,17550, 500=0,13160, 1000=0,11113 (USD); Mount: Surface Mount; Case/Package: 0805; Case Code (Metric): 2012; Case Code (Imperial): 0805; Min Operating Temperature: -55°C; Max Operating Temperature: 85°C; Capacitance: 10uF; Dielectric: X5R; Package Quantity: 1; Packaging: Tape and Reel; Voltage Rating (DC): 25V; Termination: SMD/SMT; Voltage: 25V; Series: GRM; Construction: Flat; Length: 2mm; Width: 0.049inch; Height: 1.25mm; Thickness: 0.053inch; Depth: 1.25mm; Radiation Hardening: No; REACH SVHC: Unknown; Lead Free: Lead Free; RoHS Compliant: Yes; ComponentLink1URL: https://datasheet.ciiva.com/28584/626718-28584288.pdf?src-supplier=Element14; ComponentLink1Description: https://datasheet.ciiva.com/28584/626718-28584288.pdf?src-supplier=Element14; ComponentLink2URL: https://datasheet.ciiva.com/16440/grm21br61e106ka73l-16440627.pdf?src-supplier=Future+Electronics; ComponentLink2Description: https://datasheet.ciiva.com/16440/grm21br61e106ka73l-16440627.pdf?src-supplier=Future+Electronics; ComponentLink3URL: https://datasheet.ciiva.com/5424/product-5424327.pdf?src-supplier=Mouser; ComponentLink3Description: https://datasheet.ciiva.com/5424/product-5424327.pdf?src-supplier=Mouser; ComponentLink4URL: https://datasheet.ciiva.com/22774/1747469-22774396.pdf?src-supplier=Farnell; ComponentLink4Description: https://datasheet.ciiva.com/22774/1747469-22774396.pdf?src-supplier=Farnell; ComponentLink5URL: https://datasheet.ciiva.com/29199/454623-da-01-en-vs-kondensator-0805-29199615.pdf?src-supplier=Conrad; ComponentLink5Description: https://datasheet.ciiva.com/29199/454623-da-01-en-vs-kondensator-0805-29199615.pdf?src-supplier=Conrad; ComponentLink6URL: https://datasheet.ciiva.com/139/partnumbering-e-01-139184.pdf?src-supplier=Digi-Key; ComponentLink6Description: https://datasheet.ciiva.com/139/partnumbering-e-01-139184.pdf?src-supplier=Digi-Key; ComponentLink7URL: https://datasheet.ciiva.com/7719/1747469-7719093.pdf?src-supplier=Element14; ComponentLink7Description: https://datasheet.ciiva.com/7719/1747469-7719093.pdf?src-supplier=Element14; ComponentLink8URL: https://datasheet.ciiva.com/28584/626718-28584279.pdf?src-supplier=Element14; ComponentLink8Description: https://datasheet.ciiva.com/28584/626718-28584279.pdf?src-supplier=Element14; ComponentLink9URL: https://datasheet.ciiva.com/14116/grmseries-highdielectrictype-eng-14116376.pdf?src-supplier=Distrelec; ComponentLink9Description: https://datasheet.ciiva.com/14116/grmseries-highdielectrictype-eng-14116376.pdf?src-supplier=Distrelec; ComponentLink10URL: https://datasheet.ciiva.com/139/partnumbering-e-01-139182.pdf?src-supplier=Digi-Key; ComponentLink10Description: https://datasheet.ciiva.com/139/partnumbering-e-01-139182.pdf?src-supplier=Digi-Key; ComponentLink11URL: https://datasheet.ciiva.com/139/partnumbering-e-01-139183.pdf?src-supplier=Digi-Key; ComponentLink11Description: https://datasheet.ciiva.com/139/partnumbering-e-01-139183.pdf?src-supplier=Digi-Key
footprint C 0805(2012)x0.85
pins: 1, 2

## CAP NP
designator C?, comment 4.7uF
CAP CER 4.7UF 100V X7S 1210; Manufacturer: Murata; Manufacturer Part Number: GCM32DC72A475KE02L; Output Type: Adjustable; Number of Logic Elements/Cells: 12084; RAM Size: 933888b; Number of I/Os: 195; Output Configuration: Positive; Number of Outputs: 1; Min Input Voltage: 4.5V; Max Input Voltage: 36V; Min Output Voltage: 1V; Max Output Voltage: 28V; Output Current: 2.5A; Switching Frequency: 2.1MHz; Synchronous Rectifier: Yes; Tolerance: 10%; ComponentLink1URL: https://datasheet.ciiva.com/25803/cl10b104kb8nnnc-25803393.pdf?src-supplier=Digi-Key; ComponentLink1Description: https://datasheet.ciiva.com/25803/cl10b104kb8nnnc-25803393.pdf?src-supplier=Digi-Key; ComponentLink2URL: https://datasheet.ciiva.com/26838/getdatasheetpartid-89097-26838411.pdf?src-supplier=Verical; ComponentLink2Description: https://datasheet.ciiva.com/26838/getdatasheetpartid-89097-26838411.pdf?src-supplier=Verical; ComponentLink3URL: https://datasheet.ciiva.com/29198/456651-da-01-en-vs-kondensator-0605-29198839.pdf?src-supplier=Conrad; ComponentLink3Description: https://datasheet.ciiva.com/29198/456651-da-01-en-vs-kondensator-0605-29198839.pdf?src-supplier=Conrad; ComponentLink4URL: https://datasheet.ciiva.com/24217/c3225x7s2a475k200ab-265486-24217083.pdf?src-supplier=Mouser; ComponentLink4Description: https://datasheet.ciiva.com/24217/c3225x7s2a475k200ab-265486-24217083.pdf?src-supplier=Mouser; ComponentLink5URL: https://datasheet.ciiva.com/22725/1913358-22725605.pdf?src-supplier=Element14; ComponentLink5Description: https://datasheet.ciiva.com/22725/1913358-22725605.pdf?src-supplier=Element14; ComponentLink6URL: https://datasheet.ciiva.com/28620/mlcc-commercial-general-en-28620697.pdf?src-supplier=Element14; ComponentLink6Description: https://datasheet.ciiva.com/28620/mlcc-commercial-general-en-28620697.pdf?src-supplier=Element14; ComponentLink7URL: https://datasheet.ciiva.com/22694/1571323-22694186.pdf?src-supplier=Element14; ComponentLink7Description: https://datasheet.ciiva.com/22694/1571323-22694186.pdf?src-supplier=Element14; ComponentLink8URL: https://datasheet.ciiva.com/7975/1571323-7975179.pdf?src-supplier=Element14; ComponentLink8Description: https://datasheet.ciiva.com/7975/1571323-7975179.pdf?src-supplier=Element14; ComponentLink9URL: https://datasheet.ciiva.com/48671/mlcc-commercial-midvoltage-en-48671371.pdf?src-supplier=Avnet; ComponentLink9Description: https://datasheet.ciiva.com/48671/mlcc-commercial-midvoltage-en-48671371.pdf?src-supplier=Avnet; ComponentLink10URL: https://datasheet.ciiva.com/23803/1796654-23803052.pdf?src-supplier=Newark; ComponentLink10Description: https://datasheet.ciiva.com/23803/1796654-23803052.pdf?src-supplier=Newark; ComponentLink11URL: https://datasheet.ciiva.com/16498/mid-volt-b11-16498735.pdf?src-supplier=Future+Electronics; ComponentLink11Description: https://datasheet.ciiva.com/16498/mid-volt-b11-16498735.pdf?src-supplier=Future+Electronics; Supplier 1: Digi-Key; Supplier Part Number 1: 490-14484-1-ND; RoHS: Yes; Category: Ceramic Capacitors; Stock 1: 109072; Pricing 1: 1=1,31000, 10=1,03500, 50=0,89700, 100=0,77620, 500=0,58650 (USD); Mount: Surface Mount; Case/Package: 1210; Number of Pins: 400; Case Code (Imperial): 1210; Case Code (Metric): 3225; Min Operating Temperature: -40°C; Max Operating Temperature: 125°C; Packaging: Tape and Reel; Capacitance: 4.7uF; Voltage Rating: 100V; Ratings: AEC-Q200; Lead Free: Lead Free; RoHS Compliant: Yes; ComponentLink12URL: http://search.murata.co.jp/Ceramy/image/img/A01X/partnumbering_e_02.pdf?src-supplier=Digi-Key; ComponentLink12Description: http://search.murata.co.jp/Ceramy/image/img/A01X/partnumbering_e_02.pdf?src-supplier=Digi-Key
footprint C1210 (Molded Capacitor, 2-Leads, Body 3,20x2,50mm, IPC Medium Density)
pins: 1, 2

## Cap_1
designator C?, comment 47uF
CAP CER 47UF 10V X5R 0805; Manufacturer: Murata Electronics North America; Manufacturer Part Number: GRM21BR61A476ME15K; Value: 47uF; Supplier Part Number: 490-GRM21BR61A476ME15KCT-ND
footprint 0805_C (MODIFIED BY DN_MH - 16JAN17;CHECKED BY DN_TN - 18JAN17)
pins: 1, 2